# Altium schematic symbol library SHT40I-AD1F-R2.SchLib: 1 symbol
Pins are listed as number, name and electrical type; pins without a type are passive.

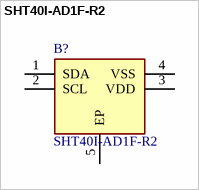
[diagram p0: symbol SHT40I-AD1F-R2]

## SHT40I-AD1F-R2
designator B?
Board Mount Humidity Sensors Digital Industrial Humidity and Temperature Sensor incl Filter Membrane; Manufacturer_Name: Sensirion; Geometry.Height: 0.59mm; Mouser Part Number: 403-SHT40I-AD1F-R2; Mouser Price/Stock: https://www.mouser.co.uk/ProductDetail/Sensirion/SHT40I-AD1F-R2?qs=rQFj71Wb1eVYLTRlLwJKVQ%3D%3D; Manufacturer_Part_Number: SHT40I-AD1F-R2; Datasheet Link: https://sensirion.com/media/documents/1D662E57/64D3B086/Sensirion_Datasheet_SHT4xI-Digital.pdf
footprint SON80P150X150X59-5N
pins: 1 SDA, 2 SCL, 3 VDD, 4 VSS, 5 EP